# EAGLE library part MN3005 (library mb3_integrated circuits)
4,096 stage BBD For use with the obsoleted Panasonic/Motorla MN3005 BBD (4,096 stages). Can also be used for the MN3205, v3205 and MN3008 (2,048 stages). Power requirements are different depending on whether you are using + or - supply voltage for the MN3005, MN3008 (15v max). The MN3205 is +9v max and the v3205 is +5v max. Be sure you understand how to hook up power to these devices in each case. XVIVE MN3005 clone: http://smallbear-electronics.mybigcommerce.com/mn3005-re-makes-xvive-audio/ Cool Audio MN3205 clone: http://smallbear-electronics.mybigcommerce.com/ic-v3205-v3102/
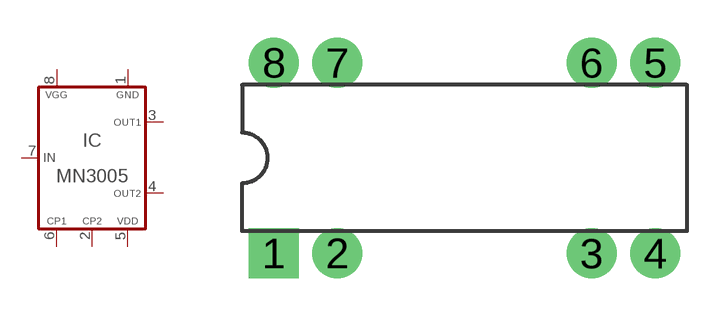
[diagram p2: symbol with the pads of DIP14.2; footprint DIP14.2]

Designator prefix IC

## MN3005  [DIP14.2]
1  P$1
2  P$2
3  P$3
4  P$4
5  P$5
6  P$6
7  P$7
8  P$8

## Footprint DIP14.2 (pad centres in mm)
For BBD such as the MN3005 and MN3205
drill 1 pad 2 square: 1 -7.62,-3.81
drill 1 pad 2: 2 -5.08,-3.81; 3 5.08,-3.81; 4 7.62,-3.81; 5 7.62,3.81; 6 5.08,3.81; 7 -5.08,3.81; 8 -7.62,3.81